# Altium schematic symbol library S02B-PASK-2LFSN.SchLib: 1 symbol
Pins are listed as number, name and electrical type; pins without a type are passive.

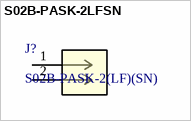
[diagram p0: symbol S02B-PASK-2LFSN]

## S02B-PASK-2LFSN
designator J?, comment S02B-PASK-2(LF)(SN)
Description; Manufacturer_Name: JST; Type: Headers, Male Pins; Copyright: Copyright (C) 2025 Ultra Librarian. All rights reserved.; Manufacturer_Part_Number: S02B-PASK-2(LF)(SN); RefDes: RefDes
footprint CONN2_S02B-PASK_JST
pins: 1, 2